# EAGLE library part CON-12P (library degson)
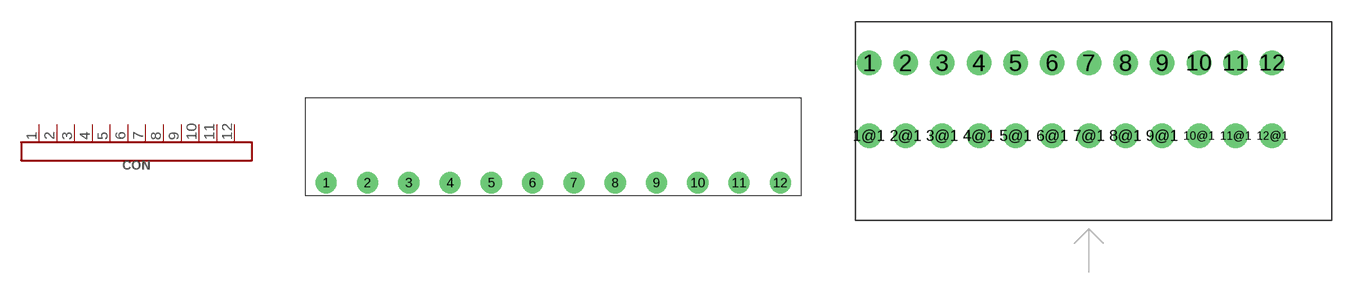
[diagram p1: symbol with the pads of 2EDGR-5.08-12P; footprints 2EDGR-5.08-12P, DG141R-2.54-12P]

Designator prefix CON

## CON-12P-2EDGR-5.08 (MANF: Degson Electronics; MANF#: 2EDGR-5.08-05P-14-00A(H); TYPE: 2EDGR-5.08)  [2EDGR-5.08-12P]
1  1
2  2
3  3
4  4
5  5
6  6
7  7
8  8
9  9
10  10
11  11
12  12

## CON-12P-DG141R-2.54 (MANF: Degson Electronics; MANF#: DG141R-2.54-12P-14-00A(H); TYPE: DG141R-2.54)  [DG141R-2.54-12P]
1  1
1@1  1
2  2
2@1  2
3  3
3@1  3
4  4
4@1  4
5  5
5@1  5
6  6
6@1  6
7  7
7@1  7
8  8
8@1  8
9  9
9@1  9
10  10
10@1  10
11  11
11@1  11
12  12
12@1  12

## CON-12P-DG141V-2.54 (MANF: Degson Electronics; MANF#: DG141V-2.54-12P; TYPE: DG141V-2.54)  [DG141V-2.54-12P]
Pads as for DG141R-2.54-12P

## Footprint 2EDGR-5.08-12P (pad centres in mm)
drill 1.6 pad 2.6: 1 -27.94,0; 2 -22.86,0; 3 -17.78,0; 4 -12.7,0; 5 -7.62,0; 6 -2.54,0; 7 2.54,0; 8 7.62,0; 9 12.7,0; 10 17.78,0; 11 22.86,0; 12 27.94,0

## Footprint DG141R-2.54-12P (pad centres in mm)
Datasheet <DG141R-2.54>
drill 1 pad 1.7: 1 -15.24,2.54; 1@1 -15.24,-2.54; 2 -12.7,2.54; 2@1 -12.7,-2.54; 3 -10.16,2.54; 3@1 -10.16,-2.54; 4 -7.62,2.54; 4@1 -7.62,-2.54; 5 -5.08,2.54; 5@1 -5.08,-2.54; 6 -2.54,2.54; 6@1 -2.54,-2.54; 7 0,2.54; 7@1 0,-2.54; 8 2.54,2.54; 8@1 2.54,-2.54; 9 5.08,2.54; 9@1 5.08,-2.54; 10 7.62,2.54; 10@1 7.62,-2.54; 11 10.16,2.54; 11@1 10.16,-2.54; 12 12.7,2.54; 12@1 12.7,-2.54

## Footprint DG141V-2.54-12P (pad centres in mm)
Datasheet <DG141R-2.54>
drill 1 pad 1.7: 1 -15.24,2.54; 1@1 -15.24,-2.54; 2 -12.7,2.54; 2@1 -12.7,-2.54; 3 -10.16,2.54; 3@1 -10.16,-2.54; 4 -7.62,2.54; 4@1 -7.62,-2.54; 5 -5.08,2.54; 5@1 -5.08,-2.54; 6 -2.54,2.54; 6@1 -2.54,-2.54; 7 0,2.54; 7@1 0,-2.54; 8 2.54,2.54; 8@1 2.54,-2.54; 9 5.08,2.54; 9@1 5.08,-2.54; 10 7.62,2.54; 10@1 7.62,-2.54; 11 10.16,2.54; 11@1 10.16,-2.54; 12 12.7,2.54; 12@1 12.7,-2.54